# Altium schematic symbol library NVTFS9D6P04M8L.Schlib: 1 symbol
Pins are listed as number, name and electrical type; pins without a type are passive.

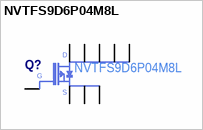
[diagram p0: symbol NVTFS9D6P04M8L]

## NVTFS9D6P04M8L
designator Q?
Manufacturer Part Number: NVTFS9D6P04M8L
pins: 1 S, 2 S, 3 S, 4 G, 5 D, 6 D, 7 D, 8 D, 9 D